# Altium schematic symbol library PD32A0-DrV.SchLib: 1 symbol
Pins are listed as number, name and electrical type; pins without a type are passive.

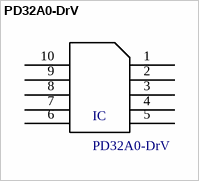
[diagram p0: symbol PD32A0-DrV]

## PD32A0-DrV
designator IC
pins: 1 54, 2 55, 3 56, 4 57, 5 58, 6 63, 7 62, 8 61, 9 60, 10 59